# Altium schematic symbol library Digital Interfaces GOST.SchLib: 18 symbols
Pins are listed as number, name and electrical type; pins without a type are passive.

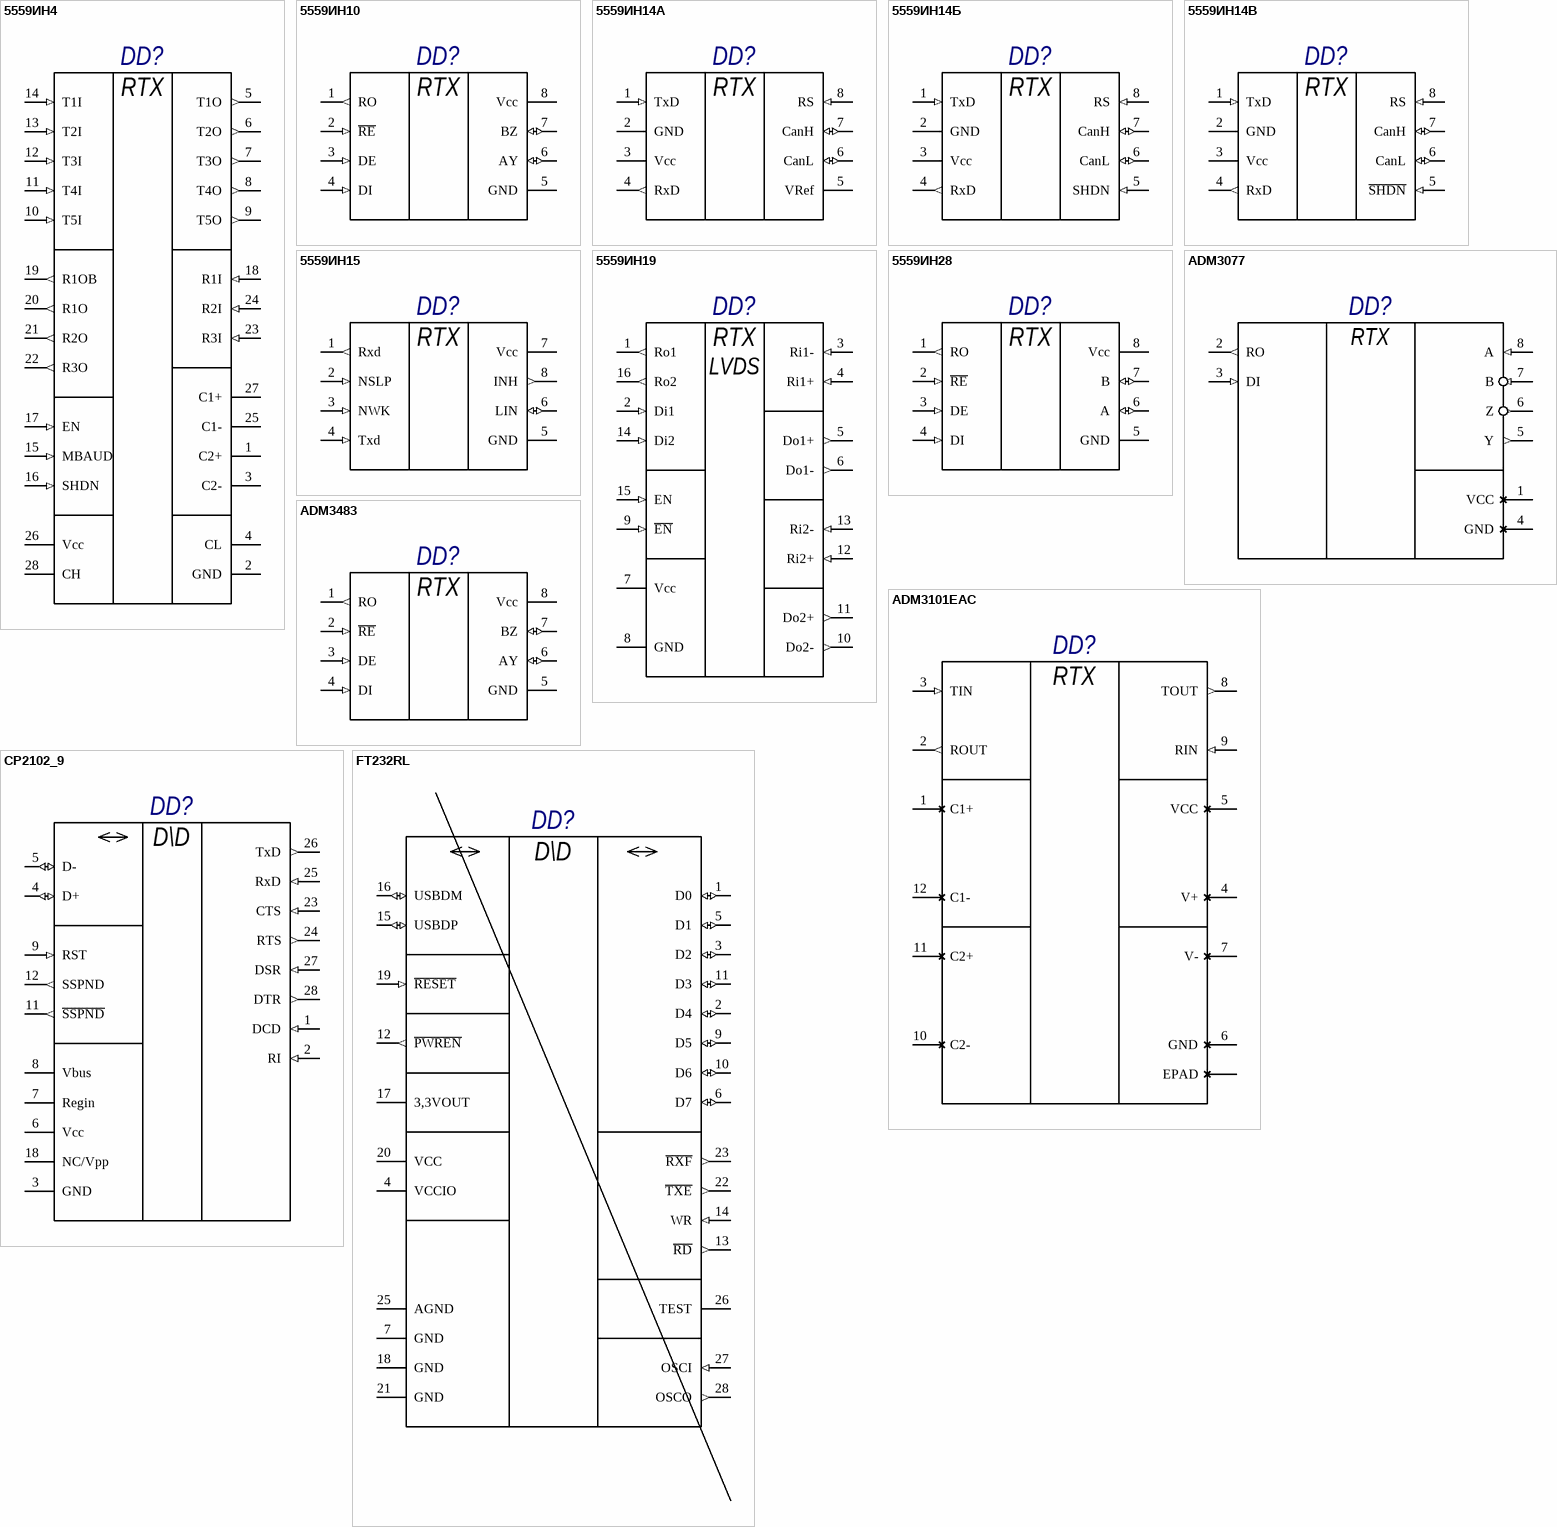
[diagram p0: symbols 5559ИН4 to FT232RL]

## 5559ИН4
designator DD?
Published: 19.08.2014; Publisher: Andrew Danich; Type: Микросхема
pins: 1 C2+, 2 GND (power), 3 C2-, 4 CL (power), 5 T1O (out), 6 T2O (out), 7 T3O (out), 8 T4O (out), 9 T5O (out), 10 T5I (in), 11 T4I (in), 12 T3I (in), 13 T2I (in), 14 T1I (in), 15 MBAUD (in), 16 SHDN (in), 17 EN (in), 18 R1I (in), 19 R1OB (out), 20 R1O (out), 21 R2O (out), 22 R3O (out), 23 R3I (in), 24 R2I (in), 25 C1-, 26 Vcc (power), 27 C1+, 28 CH (power)
text: RTX

## 5559ИН10
designator DD?
Published: 26.05.2014; Publisher: Andrew Danich; Type: Микросхема
pins: 1 RO (out), 2 ~{RE} (in), 3 DE (in), 4 DI (in), 5 GND (power), 6 AY (io), 7 BZ (io), 8 Vcc (power)
text: RTX

## 5559ИН14А
designator DD?
Published: 18.08.2014; Publisher: Andrew Danich; Type: Микросхема
pins: 1 TxD (in), 2 GND (power), 3 Vcc (power), 4 RxD (out), 5 VRef (power), 6 CanL (io), 7 CanH (io), 8 RS (in)
text: RTX

## 5559ИН14Б
designator DD?
Published: 18.08.2014; Publisher: Andrew Danich; Type: Микросхема
pins: 1 TxD (in), 2 GND (power), 3 Vcc (power), 4 RxD (out), 5 SHDN (in), 6 CanL (io), 7 CanH (io), 8 RS (in)
text: RTX

## 5559ИН14В
designator DD?
Published: 18.08.2014; Publisher: Andrew Danich; Type: Микросхема
pins: 1 TxD (in), 2 GND (power), 3 Vcc (power), 4 RxD (out), 5 ~{SHDN} (in), 6 CanL (io), 7 CanH (io), 8 RS (in)
text: RTX

## 5559ИН15
designator DD?
Published: 19.08.2014; Publisher: Andrew Danich; Type: Микросхема
pins: 1 Rxd (out) "Выход приемника (открытый сток)", 2 NSLP (in) "Вход управления режимом «выключено»", 3 NWK (in) "Вход локального включения", 4 Txd (in) "Вход передатчика", 5 GND (power) "Общий", 6 LIN (io) "Вход приемника/Выход передатчика", 7 Vcc (power) "Питание", 8 INH (out) "Выход для управления внешним регулятором напряжения"
text: RTX

## 5559ИН19
designator DD?
Published: 26.05.2014; Publisher: Andrew Danich; Type: Микросхема
pins: 1 Ro1 (out), 2 Di1 (in), 3 Ri1- (in), 4 Ri1+ (in), 5 Do1+ (out), 6 Do1- (out), 7 Vcc (power), 8 GND (power), 9 ~{EN} (in), 10 Do2- (out), 11 Do2+ (out), 12 Ri2+ (in), 13 Ri2- (in), 14 Di2 (in), 15 EN (in), 16 Ro2 (out)
text: RTX; LVDS

## 5559ИН28
designator DD?
Published: 10.08.2014; Publisher: Andrew Danich; Type: Микросхема
pins: 1 RO (out), 2 ~{RE} (in), 3 DE (in), 4 DI (in), 5 GND (power), 6 A (io), 7 B (io), 8 Vcc (power)
text: RTX

## ADM3077
designator DD?
Published: 05.09.2015; Publisher: Andrew Danich; Type: Микросхема
pins: 1 VCC (power) "Power Supply", 2 RO (out) "Receiver Output", 3 DI (in) "Driver Input", 4 GND (power) "Ground", 5 Y (out) "Noninverting Driver Output", 6 Z (out) "Inverting Driver Output", 7 B (in) "Inverting Receiver Input B", 8 A (in) "Noninverting Receiver Input A"
text: RTX

## ADM3101EAC
designator DD?
Published: 07.05.2016; Publisher: Andrew Danich; Type: Микросхема
pins: 1 C1+, 2 ROUT (out), 3 TIN (in), 4 V+, 5 VCC (power), 6 GND (power), 7 V-, 8 TOUT (out), 9 RIN (in), 10 C2-, 11 C2+, 12 C1-, 13 EPAD
text: RTX

## ADM3483
designator DD?
Published: 17.10.2015; Publisher: Andrew Danich; Type: Микросхема
pins: 1 RO (out), 2 ~{RE} (in), 3 DE (in), 4 DI (in), 5 GND (power), 6 AY (io), 7 BZ (io), 8 Vcc (power)
text: RTX

## CP2102_9
designator DD?
Single Chip USB to UART Bridge; Published: 03.08.2015; Publisher: Andrew Danich; Type: Микросхема
pins: 1 DCD (in), 2 RI (in), 3 GND (power), 4 D+ (io), 5 D- (io), 6 Vcc (power), 7 Regin (power), 8 Vbus (power), 9 RST (in), 11 ~{SSPND} (out), 12 SSPND (out), 18 NC/Vpp (power), 23 CTS (in), 24 RTS (out), 25 RxD (in), 26 TxD (out), 27 DSR (in), 28 DTR (out)
text: D\D

## FT232RL
designator DD?
Published: 15.09.2013; Publisher: Andrew Danich; Type: Микросхема
pins: 1 D0 (io), 2 D4 (io), 3 D2 (io), 4 VCCIO (power), 5 D1 (io), 6 D7 (io), 7 GND (power), 9 D5 (io), 10 D6 (io), 11 D3 (io), 12 ~{PWREN} (out), 13 ~{RD} (out), 14 WR (in), 15 USBDP (io), 16 USBDM (io), 17 3,3VOUT (power), 18 GND (power), 19 ~{RESET} (in), 20 VCC (power), 21 GND (power), 22 ~{TXE} (out), 23 ~{RXF} (out), 25 AGND (power), 26 TEST, 27 OSCI (in), 28 OSCO (out)
text: D\D

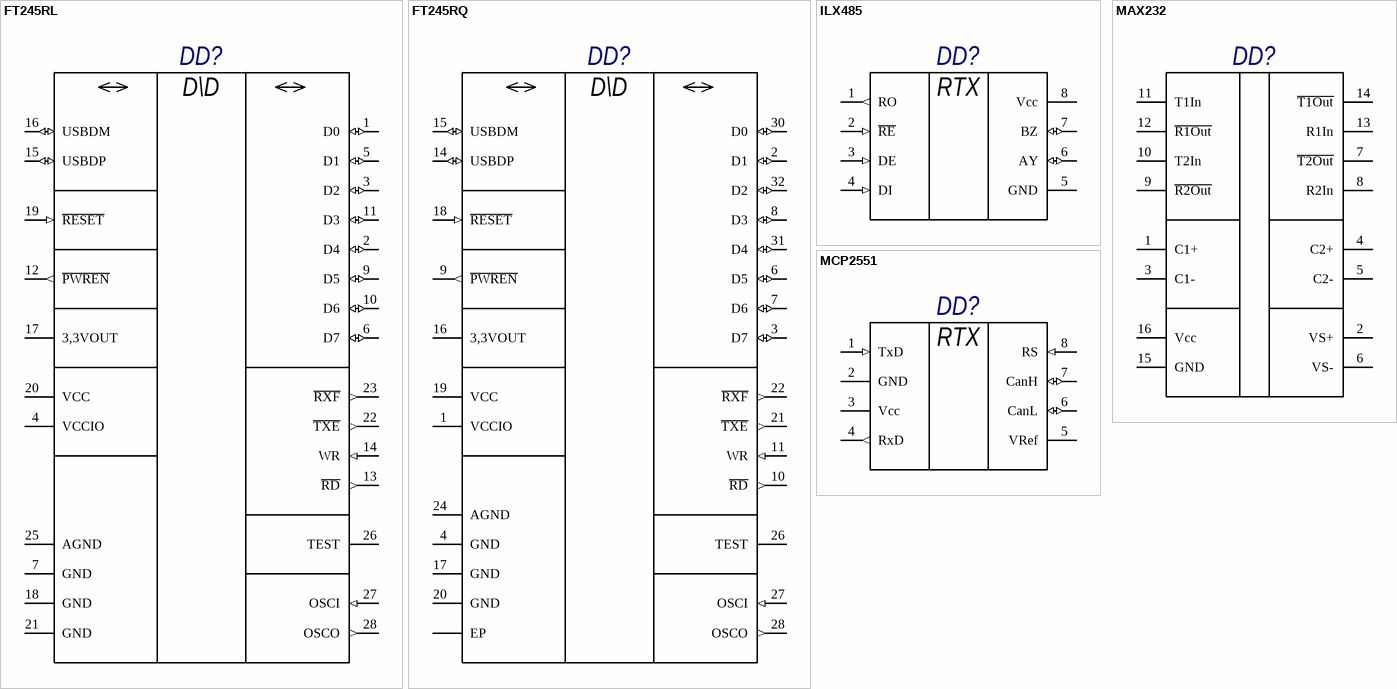
[diagram p1: symbols FT245RL to MCP2551]

## FT245RL
designator DD?
Published: 15.09.2013; Publisher: Andrew Danich; Type: Микросхема
pins: 1 D0 (io), 2 D4 (io), 3 D2 (io), 4 VCCIO (power), 5 D1 (io), 6 D7 (io), 7 GND (power), 9 D5 (io), 10 D6 (io), 11 D3 (io), 12 ~{PWREN} (out), 13 ~{RD} (out), 14 WR (in), 15 USBDP (io), 16 USBDM (io), 17 3,3VOUT (power), 18 GND (power), 19 ~{RESET} (in), 20 VCC (power), 21 GND (power), 22 ~{TXE} (out), 23 ~{RXF} (out), 25 AGND (power), 26 TEST, 27 OSCI (in), 28 OSCO (out)
text: D\D

## FT245RQ
designator DD?
Published: 20.02.1017; Publisher: Andrew Danich; Type: Микросхема
pins: 1 VCCIO (power), 2 D1 (io), 3 D7 (io), 4 GND (power), 6 D5 (io), 7 D6 (io), 8 D3 (io), 9 ~{PWREN} (out), 10 ~{RD} (out), 11 WR (in), 14 USBDP (io), 15 USBDM (io), 16 3,3VOUT (power), 17 GND (power), 18 ~{RESET} (in), 19 VCC (power), 20 GND (power), 21 ~{TXE} (out), 22 ~{RXF} (out), 24 AGND (power), 26 TEST, 27 OSCI (in), 28 OSCO (out), 30 D0 (io), 31 D4 (io), 32 D2 (io), 33 EP (power)
text: D\D

## ILX485
designator DD?
Published: 11.03.2015; Publisher: Andrew Danich; Type: Микросхема
pins: 1 RO (out), 2 ~{RE} (in), 3 DE (in), 4 DI (in), 5 GND (power), 6 AY (io), 7 BZ (io), 8 Vcc (power)
text: RTX

## MAX232
designator DD?
Dual EIA-232 Driver / Receiver; Type: Микросхема; Publisher: 11.04.2014; Published: Andrew Danich
pins: 1 C1+, 2 VS+ (power), 3 C1-, 4 C2+, 5 C2-, 6 VS- (power), 7 ~{T2Out}, 8 R2In, 9 ~{R2Out}, 10 T2In, 11 T1In, 12 ~{R1Out}, 13 R1In, 14 ~{T1Out}, 15 GND (power), 16 Vcc (power)

## MCP2551
designator DD?
Высокоскоростной CAN-Трансивер, 1Мб/с, 12В/24В, до 112 узлов; Published: 26.02.2013; Publisher: Andrew Danich; Type: Микросхема
pins: 1 TxD (in), 2 GND (power), 3 Vcc (power), 4 RxD (out), 5 VRef (power), 6 CanL (io), 7 CanH (io), 8 RS (in)
text: RTX